# Altium footprint library SOIC 127.PcbLib: 4 footprints
Each footprint in its own frame and in the unit in brackets; x right, y up, seen from the top. Pads: shape width x height; smd on the part's side, far side on the other; paste and mask are expansions set on the pad; w line width, h text height; cw(c..) or ccw(c..) is an arc to the next point about the centre after c.
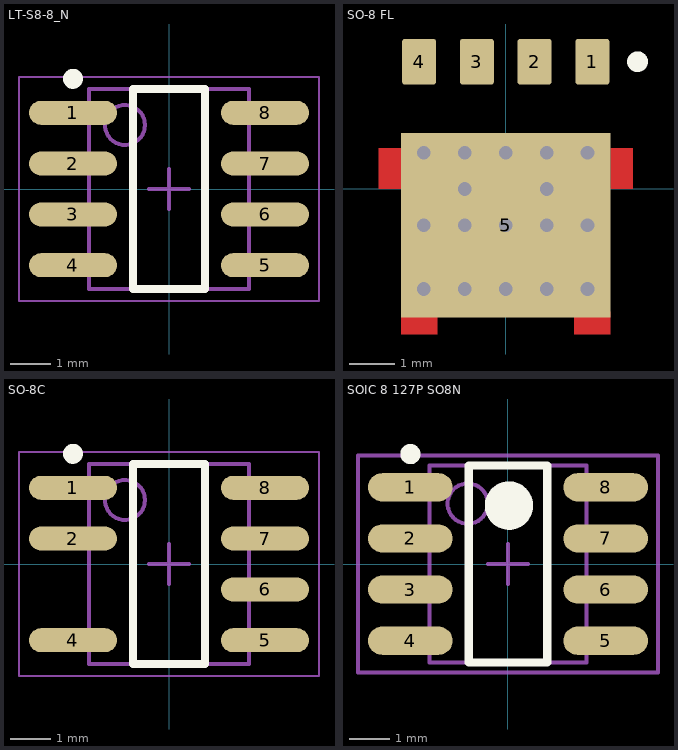
[diagram p0: the footprints below, top view; thin cyan lines are the x and y axes]

## LT-S8-8_N [mm] "SOIC, 8-Leads, Body 4.9x3.9mm, Pitch 1.27mm, IPC Medium Density"
pads (8):
  oval 2.2x0.6 smd: 1(-2.4,1.905) 2(-2.4,0.635) 3(-2.4,-0.635) 4(-2.4,-1.905) 5(2.4,-1.905) 6(2.4,-0.635) 7(2.4,0.635) 8(2.4,1.905)
Top Overlay:
  circle w0.25: c-2.4,2.755 r0.125
  lines w0.2: -0.9,-2.5 0.9,-2.5 0.9,2.5 -0.9,2.5 -0.9,-2.5
Mechanical 13:
  circle w0.1: c-1.1,1.6 r0.5
  lines w0.1: -2,-2.5 2,-2.5 2,2.5 -2,2.5 -2,-2.5
Mechanical 15:
  lines w0.05: -3.75,-2.8 3.75,-2.8 3.75,2.8 -3.75,2.8 -3.75,-2.8
  lines w0.1: -0.5,0 0.5,0 ; 0,-0.5 0,0.5
3D body: height 0.1, standoff 0, extent -2,-2.5 2,2.5

## SO-8 FL [mm] "SO-8 FL"
height 1.1
pads (5):
  rrect15% 0.75x1 smd: 1(1.905,2.8) 2(0.635,2.8) 3(-0.635,2.8) 4(-1.905,2.8)
  rect 4.6x4.055 smd paste-0.5: 5(0,-0.8)
via 0.9,0 diameter 0.5 hole 0.3
via -0.9,0 diameter 0.5 hole 0.3
via 0.9,-2.2 diameter 0.5 hole 0.3
via -0.9,-2.2 diameter 0.5 hole 0.3
via 0.9,-0.8 diameter 0.5 hole 0.3
via -0.9,-0.8 diameter 0.5 hole 0.3
via -0.9,0.8 diameter 0.5 hole 0.3
via 0.9,0.8 diameter 0.5 hole 0.3
via 1.8,0.8 diameter 0.5 hole 0.3
via 1.8,-0.8 diameter 0.5 hole 0.3
via 1.8,-2.2 diameter 0.5 hole 0.3
via 0,0.8 diameter 0.5 hole 0.3
via -1.8,0.8 diameter 0.5 hole 0.3
via 0,-0.8 diameter 0.5 hole 0.3
via -1.8,-0.8 diameter 0.5 hole 0.3
via -1.8,-2.2 diameter 0.5 hole 0.3
via 0,-2.2 diameter 0.5 hole 0.3
Top Layer:
  rectangle: 1.5,-3.2 2.3,-2.7
  rectangle: -2.3,-3.2 -1.5,-2.7
  rectangle: 2.3,0 2.8,0.9
  rectangle: -2.8,0 -2.3,0.9
Top Overlay:
  circle w0.254: c2.9,2.8 r0.1
Top Solder:
  rectangle: 1.4,-3.3 2.4,-2.8
  rectangle: -2.4,-3.3 -1.4,-2.8
  rectangle: 2.3,-0.1 2.9,1
  rectangle: -2.9,-0.1 -2.3,1
3D body: height 1.13, standoff 0, extent -2.575,-3.1 2.575,3.05

## SO-8C [mm] "SOIC, 8-Leads, Body 4.9x3.9mm, Pitch 1.27mm, IPC Medium Density"
pads (7):
  oval 2.2x0.6 smd: 1(-2.4,1.905) 2(-2.4,0.635) 4(-2.4,-1.905) 5(2.4,-1.905) 6(2.4,-0.635) 7(2.4,0.635) 8(2.4,1.905)
Top Overlay:
  circle w0.25: c-2.4,2.755 r0.125
  lines w0.2: -0.9,-2.5 -0.9,2.5 0.9,2.5 0.9,-2.5 -0.9,-2.5
Mechanical 13:
  circle w0.1: c-1.1,1.6 r0.5
  lines w0.1: -2,-2.5 -2,2.5 2,2.5 2,-2.5 -2,-2.5
Mechanical 15:
  lines w0.05: -3.75,-2.8 -3.75,2.8 3.75,2.8 3.75,-2.8 -3.75,-2.8
  lines w0.1: -0.5,0 0.5,0 ; 0,-0.5 0,0.5
3D body: height 1.68, standoff 0, extent -3.023,-2.45 3.023,2.45

## SOIC 8 127P SO8N [mm] "SOIC, 8-Leads, Body 4,9x3,9mm (max), Pitch 1,27mm, IPC Medium Density"
height 1.75
pads (8):
  oval 2.1x0.7 smd: 1(-2.425,1.905) 2(-2.425,0.635) 3(-2.425,-0.635) 4(-2.425,-1.905) 5(2.425,-1.905) 6(2.425,-0.635) 7(2.425,0.635) 8(2.425,1.905)
Top Overlay:
  circle w0.6: c0.025,1.45 r0.3
  circle w0.25: c-2.425,2.73 r0.125
  lines w0.2: -0.975,-2.45 0.975,-2.45 0.975,2.45 -0.975,2.45 -0.975,-2.45
Mechanical 13:
  circle w0.1: c-1,1.5 r0.5
  lines w0.1: -1.95,-2.45 1.95,-2.45 1.95,2.45 -1.95,2.45 -1.95,-2.45
Mechanical 15:
  lines w0.1: -0.5,0 0.5,0 ; 0,-0.5 0,0.5 ; -3.725,-2.7 3.725,-2.7 3.725,2.7 -3.725,2.7 -3.725,-2.7
3D body: height 1.75, standoff -0.01, extent -3.1,-2.5 3.1,2.5